# Altium schematic symbol library Socket 1X2A.SchLib: 1 symbol
Pins are listed as number, name and electrical type; pins without a type are passive.

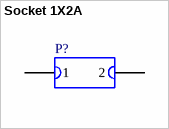
[diagram p0: symbol Socket 1X2A]

## Socket 1X2A
designator P?
Socket, 1-Pin, Dual row
pins: 1, 2